# Altium schematic symbol library tyco-mod.SchLib: 2 symbols
Pins are listed as number, name and electrical type; pins without a type are passive.

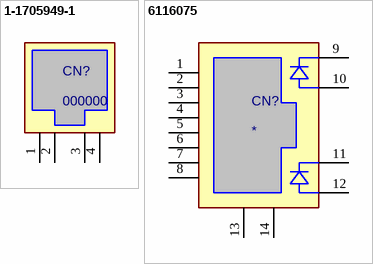
[diagram p0: symbols 1-1705949-1 to 6116075]

## 1-1705949-1
designator CN?, comment 000000
Modular Jack 4 Pos; Value: 1-1705949-1; PN: 000000; ExtraInfo: *; Package: *
footprint 1-1705949-1 (Modular Jack 4 Pos)
pins: 1, 2, 3, 4

## 6116075
designator CN?
PN: *; ExtraInfo: *; Package: *; Value: *
footprint 6116075 (Modular Jack)
pins: 1, 2, 3, 4, 5, 6, 7, 8, 9 K1, 10 A1, 11 K2, 12 A2, 13, 14